# EAGLE library part STM32F042 (library STM32F042F6)
STM32 Microcontroller http://www.st.com/content/st_com/en/products/microcontrollers/stm32-32-bit-arm-cortex-mcus.html?querycriteria=productId=SC1169
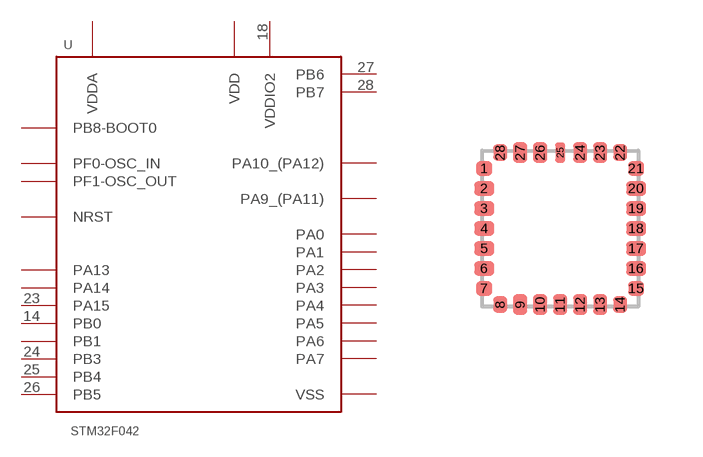
[diagram p1: symbol with the pads of UFQFPN-28; footprint UFQFPN-28]

Designator prefix -

## STM32F042  [UFQFPN-28]
1  PB8-BOOT0
2  PF0-OSC_IN
3  PF1-OSC_OUT
4  NRST
5  VDDA
6  PA0
7  PA1
8  PA2
9  PA3
10  PA4
11  PA5
12  PA6
13  PA7
14  PB0
15  PB1
16  VSS
17  VDD
18  VDDIO2
19  PA9_(PA11)
20  PA10_(PA12)
21  PA13
22  PA14
23  PA15
24  PB3
25  PB4
26  PB5
27  PB6
28  PB7

## Footprint UFQFPN-28 (pad centres in mm)
QFPN-28 7x7 x 1.8mm Source: http://www.st.com/stonline/products/literature/ds/11115/lis3lv02dq.pdf
smd 0.4 x 0.35: 1 -1.9,1.5; 7 -1.9,-1.5; 15 1.9,-1.5; 21 1.9,1.5
smd 0.5 x 0.35: 2 -1.9,1; 3 -1.9,0.5; 4 -1.9,0; 5 -1.9,-0.5; 6 -1.9,-1; 16 1.9,-1; 17 1.9,-0.5; 18 1.9,0; 19 1.9,0.5; 20 1.9,1
smd 0.35 x 0.4: 8 -1.5,-1.9; 14 1.5,-1.9; 22 1.5,1.9; 28 -1.5,1.9
smd 0.35 x 0.5: 9 -1,-1.9; 10 -0.5,-1.9; 11 0,-1.9; 12 0.5,-1.9; 13 1,-1.9; 23 1,1.9; 24 0.5,1.9; 26 -0.5,1.9; 27 -1,1.9
smd 0.25 x 0.5: 25 0,1.9